# Altium footprint library triac.PCBLIB: 36 footprints (part 3 of 3)
Each footprint in its own frame and in the unit in brackets; x right, y up, seen from the top. Pads: shape width x height; smd on the part's side, far side on the other; paste and mask are expansions set on the pad; w line width, h text height; cw(c..) or ccw(c..) is an arc to the next point about the centre after c.
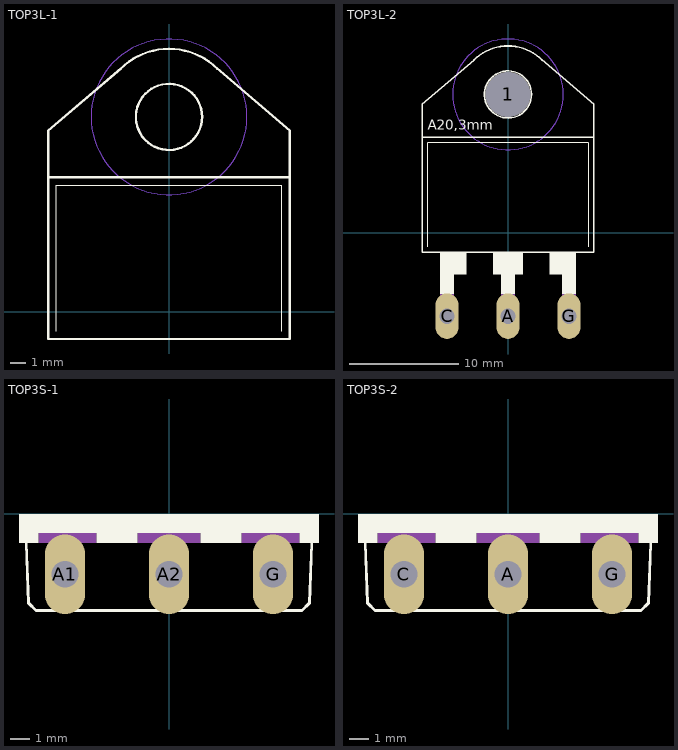
[diagram p2: the footprints below, top view; thin cyan lines are the x and y axes]

## TOP3L-1 [mil]
Bottom Layer keep-out:
  circle w0: c0,500 r200
Top Overlay:
  circle w6: c0,500 r85
  lines w2: -290,-50 -290,325 290,325 290,-50
  lines w6: -123.74,623.74 cw(c0.01,500) 0,675 cw(c-0.01,500) 123.74,623.74 ; -123,624 -310,465 -310,345 ; 123,625 310,465 310,345 ; -310,345 310,345 ; -310,345 -310,-70 310,-70 310,345

## TOP3L-2 [mil]
pads (4):
  round 162 hole 162: 1(0,500)
  oval 82.5x165 hole 55: A(0,-300) C(-220,-300) G(220,-300)
Bottom Layer keep-out:
  circle w0: c0,500 r200
Top Overlay:
  circle w6: c0,500 r85
  rectangle: -245,-150 -150,-70
  rectangle: -55,-150 55,-70
  rectangle: 150,-150 245,-70
  rectangle: -245,-220 -195,-150
  rectangle: -25,-220 25,-150
  rectangle: 195,-220 245,-150
  lines w2: -290,-50 -290,325 290,325 290,-50
  lines w6: -123.74,623.74 cw(c0,500.01) 0,675 cw(c0,500.01) 123.74,623.74 ; -123,624 -310,465 -310,345 ; 123,625 310,465 310,345 ; -310,345 -310,-70 310,-70 310,345 ; -310,345 310,345
  text "A20,3mm" at -290,360 h60.45
Mechanical 16:
  rectangle: -245,-300 -195,-220
  rectangle: -25,-300 25,-220
  rectangle: 195,-300 245,-220
Via Holes:
  circle w0: c0,500 r200

## TOP3S-1 [mil]
pads (3):
  oval 82.5x165 hole 55: A1(-215,-125) A2(0,-125) G(215,-125)
Top Overlay:
  rectangle: -310,-40 310,0
  rectangle: -310,-60 -270,-40
  rectangle: -150,-60 -65,-40
  rectangle: 270,-60 310,-40
  rectangle: 65,-60 150,-40
  lines w6: -295,-60 -290,-185 -275,-200 275,-200 290,-185 295,-60
Mechanical 16:
  rectangle: -270,-60 -150,-40
  rectangle: -65,-60 65,-40
  rectangle: 150,-60 270,-40

## TOP3S-2 [mil]
pads (3):
  oval 82.5x165 hole 55: A(0,-125) C(-215,-125) G(215,-125)
Top Overlay:
  rectangle: -310,-40 310,0
  rectangle: -310,-60 -270,-40
  rectangle: -150,-60 -65,-40
  rectangle: 270,-60 310,-40
  rectangle: 65,-60 150,-40
  lines w6: -295,-60 -290,-185 -275,-200 275,-200 290,-185 295,-60
Mechanical 16:
  rectangle: -270,-60 -150,-40
  rectangle: -65,-60 65,-40
  rectangle: 150,-60 270,-40